# Altium footprint library PcbLibForHigh_Voltage_Sensor.PcbLib: 50 footprints (part 1 of 4)
Each footprint in its own frame and in the unit in brackets; x right, y up, seen from the top. Pads: shape width x height; smd on the part's side, far side on the other; paste and mask are expansions set on the pad; w line width, h text height; cw(c..) or ccw(c..) is an arc to the next point about the centre after c.
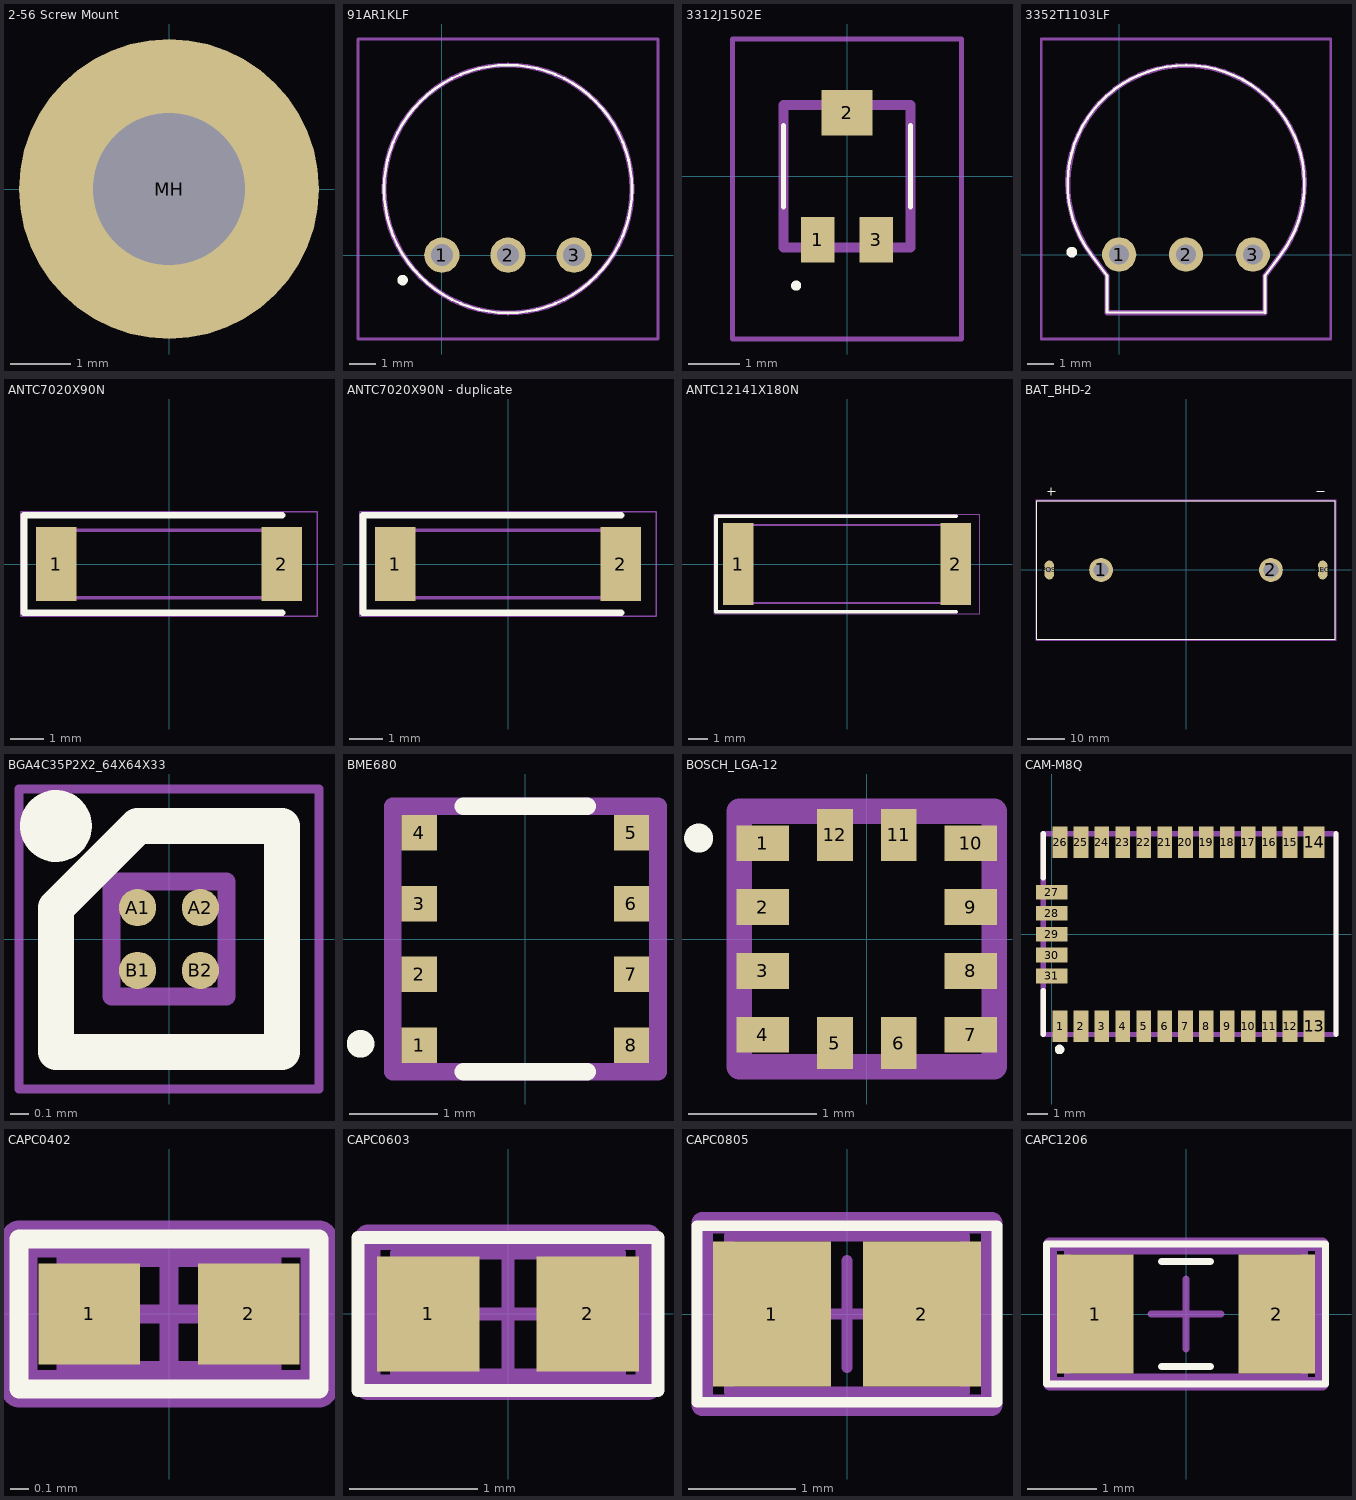
[diagram p0: the footprints below, top view; thin cyan lines are the x and y axes]

## 2-56 Screw Mount [mm] "#2-56 Screw Mounting Hole"
pads (1):
  round 5 hole 2.54 unplated: MH(0,0)

## 91AR1KLF [mm]
pads (3):
  round 1.357 hole 0.835: 1(0,0) 2(2.54,0) 3(5.08,0)
Top Overlay:
  lines w0.1: -2.223,2.54 ccw(c2.54,2.54) 7.303,2.54 ccw(c2.54,2.54) -2.223,2.54
  lines w0.3: -1.56,-0.96 cw(c-1.51,-0.96) -1.46,-0.96 cw(c-1.51,-0.96) -1.56,-0.96
Mechanical 13:
  lines w0.2: -2.223,2.54 ccw(c2.54,2.54) 7.303,2.54 ccw(c2.54,2.54) -2.223,2.54
Mechanical 15:
  lines w0.1: -3.223,-3.223 8.303,-3.223 8.303,8.303 -3.223,8.303 -3.223,-3.223
3D body "91AR1KLF.stp": height 5.18, standoff -5, extent -2.223,-2.223 7.303,7.303

## 3312J1502E [mm]
pads (3):
  rect 0.65x0.9 smd: 1(-0.575,-1.25) 3(0.575,-1.25)
  rect 1x0.9 smd: 2(0,1.25)
Top Overlay:
  lines w0.1: -1.25,-0.6 -1.25,1 ; 1.25,-0.6 1.25,1 ; -1,-2.2 ccw(c-1,-2.15) -1,-2.1 ccw(c-1,-2.15) -1,-2.2
Mechanical 13:
  lines w0.2: -1.25,-1.4 1.25,-1.4 1.25,1.4 -1.25,1.4 -1.25,-1.4
Mechanical 15:
  lines w0.1: -2.25,-3.2 2.25,-3.2 2.25,2.7 -2.25,2.7 -2.25,-3.2
3D body "3312J-1-502E.stp": height 2.1, standoff 0, extent -1.25,-1.635 1.25,1.61

## 3352T1103LF [mm]
pads (3):
  round 1.303 hole 0.76: 1(0,0.01) 2(2.54,0.01) 3(5.08,0.01)
Top Overlay:
  lines w0.1: -1.063,0.004 cw(c2.54,2.7) 6.139,-0.002 ; -1.06,0 -0.46,-0.8 -0.46,-2.187 5.54,-2.2 5.54,-0.8 6.14,0
  lines w0.2: -1.8,0 ccw(c-1.8,0.1) -1.8,0.2 ccw(c-1.8,0.1) -1.8,0
Mechanical 13:
  lines w0.2: -1.06,0.01 -0.46,-0.8 -0.46,-2.2 5.54,-2.2 5.54,-0.8 6.14,0 ; -1.061,0.011 cw(c2.544,2.698) 6.138,-0.002
Mechanical 15:
  lines w0.1: -2.96,-3.2 -2.96,8.2 8.04,8.2 8.04,-3.2 -2.96,-3.2
3D body "3352T-1-103LF.stp": height 0.1, standoff -5, extent -0.278,-0.269 5.36,0.289

## ANTC7020X90N [mm]
pads (2):
  rect 1.2x2.2 smd: 1(-3.35,0) 2(3.35,0)
Top Overlay:
  lines w0.2: 3.35,-1.45 -4.3,-1.45 -4.3,1.45 3.35,1.45
Mechanical 13:
  lines w0.1: -3.5,0.4 -2.9,1 ; -3.5,-1 -3.5,1 3.5,1 3.5,-1 -3.5,-1
Mechanical 15:
  lines w0.05: -4.4,-1.55 -4.4,1.55 4.4,1.55 4.4,-1.55 -4.4,-1.55
3D body "0900AT43A0070E.stp": height 0.9, standoff 0, extent -3.5,-1 3.5,1

## ANTC7020X90N - duplicate [mm]
pads (2):
  rect 1.2x2.2 smd: 1(-3.35,0) 2(3.35,0)
Top Overlay:
  lines w0.2: 3.35,-1.45 -4.3,-1.45 -4.3,1.45 3.35,1.45
Mechanical 13:
  lines w0.1: -3.5,0.4 -2.9,1 ; -3.5,-1 -3.5,1 3.5,1 3.5,-1 -3.5,-1
Mechanical 15:
  lines w0.05: -4.4,-1.55 -4.4,1.55 4.4,1.55 4.4,-1.55 -4.4,-1.55
3D body "0900AT43A0070E.stp": height 0.9, standoff 0, extent -3.5,-1 3.5,1

## ANTC12141X180N [mm]
pads (2):
  rect 1.6x4.3 smd: 1(-5.7,0) 2(5.7,0)
Top Overlay:
  lines w0.2: 5.7,-2.5 -6.85,-2.5 -6.85,2.5 5.7,2.5
Mechanical 13:
  lines w0.1: -6.05,1.25 -5.25,2.05 ; -6.05,-2.05 -6.05,2.05 6.05,2.05 6.05,-2.05 -6.05,-2.05
Mechanical 15:
  lines w0.05: -6.95,-2.6 -6.95,2.6 6.95,2.6 6.95,-2.6 -6.95,-2.6
3D body "ANT1204LL05R0915A.stp": height 1.8, standoff 0, extent -6.05,-2.05 6.05,2.05

## BAT_BHD-2 [mm]
pads (4):
  round 6.35 hole 4.064: 1(-22.725,0)
  round 6.35 hole 4.064 unplated: 2(22.725,0)
  oval 2.54x5.08 hole 1.27 square: NEG(36.575,0) POS(-36.575,0)
Top Overlay:
  lines w0.127: -37,21 -36,21 ; -36,20 -36,21 ; -36,22 -36,21 ; -35,21 -36,21 ; 35,21 37,21 ; -39.875,-18.54 39.875,-18.54 39.875,18.54 -39.875,18.54 -39.875,-18.54
Mechanical 13:
  lines w0.127: -39.875,-18.54 39.875,-18.54 39.875,18.54 -39.875,18.54 -39.875,-18.54
Mechanical 15:
  lines w0.05: -40.125,-18.79 40.125,-18.79 40.125,18.79 -40.125,18.79 -40.125,-18.79
3D body "BHD-2.step": height 37.46, standoff -7.37, extent -40.307,-18.845 39.443,18.235

## BGA4C35P2X2_64X64X33 [mm]
pads (4):
  round 0.208 smd: A1(-0.175,0.175) A2(0.175,0.175) B1(-0.175,-0.175) B2(0.175,-0.175)
Top Overlay:
  circle w0.2: c-0.629,0.629 r0.1
  lines w0.2: -0.629,-0.629 -0.629,0.175 -0.175,0.629 0.629,0.629 0.629,-0.629 -0.629,-0.629
Mechanical 13:
  lines w0.1: -0.32,0.152 -0.152,0.32 ; -0.32,-0.32 -0.32,0.32 0.32,0.32 0.32,-0.32 -0.32,-0.32
Mechanical 15:
  lines w0.05: -0.835,-0.835 -0.835,0.835 0.835,0.835 0.835,-0.835 -0.835,-0.835
3D body "NCP161AFCT280T2G.stp": height 0.33, standoff 0, extent -0.32,-0.32 0.32,0.32

## BME680 [mm]
pads (8):
  rect 0.4x0.4 smd: 1(-1.2,-1.2) 2(-1.2,-0.4) 3(-1.2,0.4) 4(-1.2,1.2) 5(1.2,1.2) 6(1.2,0.4) 7(1.2,-0.4) 8(1.2,-1.2)
Top Overlay:
  circle w0.254: c-1.863,-1.186 r0.029
  lines w0.2: -0.7,-1.5 0.7,-1.5 ; -0.7,1.5 0.7,1.5
Mechanical 13:
  lines w0.2: -1.5,-1.5 -1.5,1.5 1.5,1.5 1.5,-1.5 -1.5,-1.5

## BOSCH_LGA-12 [mm]
pads (12):
  rect 0.41x0.28 smd: 1(-0.815,0.75) 2(-0.815,0.25) 3(-0.815,-0.25) 4(-0.815,-0.75) 7(0.815,-0.75) 8(0.815,-0.25) 9(0.815,0.25) 10(0.815,0.75)
  rect 0.28x0.41 smd: 5(-0.25,-0.815) 6(0.25,-0.815) 11(0.25,0.815) 12(-0.25,0.815)
Top Overlay:
  circle w0.2: c-1.317,0.79 r0.013
Mechanical 13:
  lines w0.2: -1,-1 -1,1 1,1 1,-1 -1,-1

## CAM-M8Q [mm]
pads (31):
  rect 0.7x1.5 smd: 1(0.4,-4.4) 2(1.4,-4.4) 3(2.4,-4.4) 4(3.4,-4.4) 5(4.4,-4.4) 6(5.4,-4.4) 7(6.4,-4.4) 8(7.4,-4.4) 9(8.4,-4.4) 10(9.4,-4.4) 11(10.4,-4.4) 12(11.4,-4.4) 15(11.4,4.4) 16(10.4,4.4) 17(9.4,4.4) 18(8.4,4.4) 19(7.4,4.4) 20(6.4,4.4) 21(5.4,4.4) 22(4.4,4.4) 23(3.4,4.4) 24(2.4,4.4) 25(1.4,4.4) 26(0.4,4.4)
  rect 1x1.5 smd: 13(12.55,-4.4) 14(12.55,4.4)
  rect 1.5x0.7 smd: 27(0,2) 28(0,1) 29(0,0) 30(0,-1) 31(0,-2)
Top Overlay:
  circle w0.254: c0.378,-5.514 r0.099
  lines w0.254: -0.4,-4.8 -0.4,-2.7 ; -0.4,2.7 -0.4,4.8 ; 13.6,-4.8 13.6,4.8
Mechanical 13:
  lines w0.254: -0.4,-4.8 -0.4,4.8 13.6,4.8 13.6,-4.8 -0.4,-4.8
3D body "CAM-M8Q-0--3DModel-STEP-56544.STEP": height 2.3, standoff 0, extent -0.421,-4.775 13.579,4.825

## CAPC0402 [mm] "Chip Capacitor 0402, 2-Leads, Body 1.00x0.50mm, IPC High Density"
height 0.6
pads (2):
  rect 0.54x0.54 smd: 1(-0.425,0) 2(0.425,0)
Top Overlay:
  lines w0.1: -0.8,-0.4 0.8,-0.4 0.8,0.4 -0.8,0.4 -0.8,-0.4
Mechanical 13:
  lines w0.1: -0.55,-0.3 0.55,-0.3 0.55,0.3 -0.55,0.3 -0.55,-0.3
Mechanical 15:
  lines w0.05: -0.8,-0.4 0.8,-0.4 0.8,0.4 -0.8,0.4 -0.8,-0.4
  lines w0.1: -0.3,0 0.3,0 ; 0,-0.3 0,0.3
Mechanical 29:
  lines w0.2: -0.8,-0.4 0.8,-0.4 0.8,0.4 -0.8,0.4 -0.8,-0.4
  text "'.Designator'" at -1.025,-0.2 h0.5
3D body: height 0.6, standoff 0, extent 0.35,-0.3 0.55,0.3
3D body: height 0.6, standoff 0, extent -0.55,-0.3 -0.35,0.3
3D body: height 0.6, standoff 0, extent -0.35,-0.3 0.35,0.3

## CAPC0603 [mm] "Chip Capacitor 0603, 2-Leads, Body 1.60x0.80mm, IPC High Density"
height 0.85
pads (2):
  rect 0.8x0.9 smd: 1(-0.625,0) 2(0.625,0)
Top Overlay:
  lines w0.1: -1.175,-0.6 1.175,-0.6 1.175,0.6 -1.175,0.6 -1.175,-0.6
Mechanical 13:
  lines w0.1: -0.875,-0.475 -0.875,0.475 0.875,0.475 0.875,-0.475 -0.875,-0.475
Mechanical 15:
  lines w0.05: -1.1,-0.6 -1.1,0.6 1.1,0.6 1.1,-0.6 -1.1,-0.6
  lines w0.1: -0.475,0 0.475,0 ; 0,-0.475 0,0.475
Mechanical 29:
  lines w0.2: -1.1,-0.575 1.1,-0.575 1.1,0.6 -1.1,0.6 -1.1,-0.575
  text "'.Designator'" at -1.1,-0.225 h0.5
3D body: height 0.85, standoff 0, extent -0.525,-0.475 0.525,0.475
3D body: height 0.85, standoff 0, extent -0.875,-0.475 -0.525,0.475
3D body: height 0.85, standoff 0, extent 0.525,-0.475 0.875,0.475

## CAPC0805 [mm] "Chip Capacitor 0805, 2-Leads, Body 2.00x1.25mm, IPC High Density"
height 1.1
pads (2):
  rect 1.1x1.35 smd: 1(-0.7,0) 2(0.7,0)
Top Overlay:
  lines w0.1: -1.4,-0.825 1.4,-0.825 1.4,0.825 -1.4,0.825 -1.4,-0.825
Mechanical 13:
  lines w0.1: -1.1,-0.725 -1.1,0.725 1.1,0.725 1.1,-0.725 -1.1,-0.725
Mechanical 15:
  lines w0.05: -1.35,-0.85 -1.35,0.85 1.35,0.85 1.35,-0.85 -1.35,-0.85
  lines w0.1: -0.5,0 0.5,0 ; 0,-0.5 0,0.5
Mechanical 29:
  lines w0.2: -1.35,-0.85 -1.35,0.85 1.35,0.85 1.35,-0.85 -1.35,-0.85
  text "'.Designator'" at -1.15,-0.2 h0.5
3D body: height 1.1, standoff 0, extent -0.6,-0.725 0.6,0.725
3D body: height 1.1, standoff 0, extent -1.1,-0.725 -0.6,0.725
3D body: height 1.1, standoff 0, extent 0.6,-0.725 1.1,0.725

## CAPC1206 [mm] "Chip Capacitor 1206, 2-Leads, Body 3.20x1.60mm, IPC High Density"
height 1.35
pads (2):
  rect 1.1x1.7 smd: 1(-1.3,0) 2(1.3,0)
Top Overlay:
  lines w0.1: -0.35,-0.75 0.35,-0.75 ; -0.35,0.75 0.35,0.75 ; -2,-1 2,-1 2,1 -2,1 -2,-1
Mechanical 13:
  lines w0.1: -1.7,-0.9 1.7,-0.9 1.7,0.9 -1.7,0.9 -1.7,-0.9
Mechanical 15:
  lines w0.05: -1.95,-1 1.95,-1 1.95,1 -1.95,1 -1.95,-1
  lines w0.1: -0.5,0 0.5,0 ; 0,-0.5 0,0.5
Mechanical 29:
  lines w0.2: -1.95,-1 -1.95,1 1.95,1 1.95,-1 -1.95,-1
  text "'.Designator'" at -1.15,-0.65 h1
3D body: height 1.35, standoff 0, extent 1.2,-0.9 1.7,0.9
3D body: height 1.35, standoff 0, extent -1.7,-0.9 -1.2,0.9
3D body: height 1.35, standoff 0, extent -1.2,-0.9 1.2,0.9